# Altium schematic symbol library RDC-20-232-75X+.SchLib: 1 symbol
Pins are listed as number, name and electrical type; pins without a type are passive.

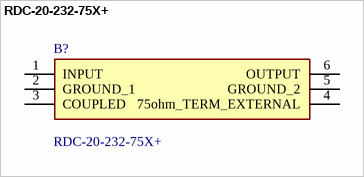
[diagram p0: symbol RDC-20-232-75X+]

## RDC-20-232-75X+
designator B?
RF Directional Coupler General Purpose 5MHz ~ 2.35GHz 20.2 +/- 1.3dB 1W 6-SMD Module; Manufacturer_Name: Mini-Circuits; Geometry.Height: 3.56mm; Mouser Part Number: 139-RDC-20-232-75X+; Mouser Price/Stock: https://www.mouser.co.uk/ProductDetail/Mini-Circuits/RDC-20-232-75X%2b?qs=ljCeji4nMDlqXNd5I%2FycaA%3D%3D; Manufacturer_Part_Number: RDC-20-232-75X+; Datasheet Link: https://www.minicircuits.com/pdfs/RDC-20-232-75X+.pdf
footprint RDC2023275X
pins: 1 INPUT, 2 GROUND_1, 3 COUPLED, 4 75ohm_TERM_EXTERNAL, 5 GROUND_2, 6 OUTPUT